# EAGLE library part 74*139 (library 74LS139N)
Dual 2-line to 4-line DECODER/DEMULTIPLEXER
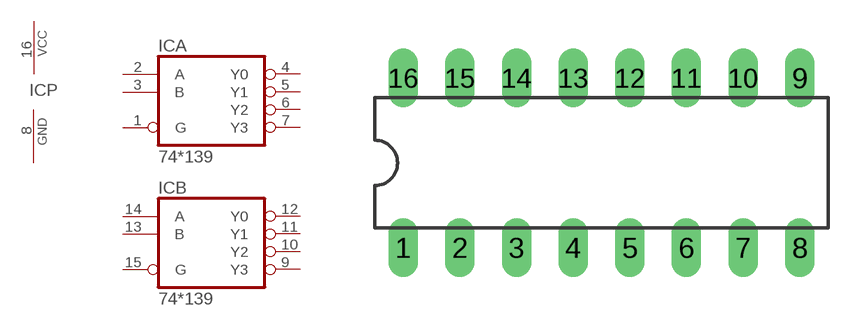
[diagram p0: symbol with the pads of DIL16; footprint DIL16]

Designator prefix IC; gates A=74139 B=74139 P=PWRN

## 74LS139N  [DIL16]
1  A:G  in
2  A:A  in
3  A:B  in
4  A:Y0  out
5  A:Y1  out
6  A:Y2  out
7  A:Y3  out
8  P:GND  pwr
9  B:Y3  out
10  B:Y2  out
11  B:Y1  out
12  B:Y0  out
13  B:B  in
14  B:A  in
15  B:G  in
16  P:VCC  pwr

## Footprint DIL16 (pad centres in mm)
Dual In Line Package
drill 0.813 long: 1 -8.89,-3.81; 2 -6.35,-3.81; 3 -3.81,-3.81; 4 -1.27,-3.81; 5 1.27,-3.81; 6 3.81,-3.81; 7 6.35,-3.81; 8 8.89,-3.81; 9 8.89,3.81; 10 6.35,3.81; 11 3.81,3.81; 12 1.27,3.81; 13 -1.27,3.81; 14 -3.81,3.81; 15 -6.35,3.81; 16 -8.89,3.81